# Altium schematic symbol library Schlib1.SchLib: 4 symbols
Pins are listed as number, name and electrical type; pins without a type are passive.

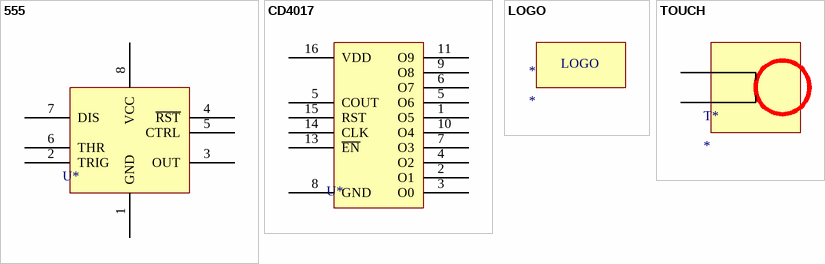
[diagram p0: symbols 555 to TOUCH]

## 555
designator U*  (value not drawn)
footprint 555
pins: 1 GND, 2 TRIG, 3 OUT, 4 ~{RST}, 5 CTRL, 6 THR, 7 DIS, 8 VCC

## CD4017
designator U*  (value not drawn)
footprint CD4017
pins: 1 O5, 2 O1, 3 O0, 4 O2, 5 O6, 5 COUT, 6 O7, 7 O3, 8 GND, 9 O8, 10 O4, 11 O9, 13 ~{EN}, 14 CLK, 15 RST, 16 VDD

## LOGO
designator *

## TOUCH
designator T*
pins: 1, 2